# Altium footprint library RoboFly.PcbLib: 28 footprints (part 1 of 2)
Each footprint in its own frame and in the unit in brackets; x right, y up, seen from the top. Pads: shape width x height; smd on the part's side, far side on the other; paste and mask are expansions set on the pad; w line width, h text height; cw(c..) or ccw(c..) is an arc to the next point about the centre after c.
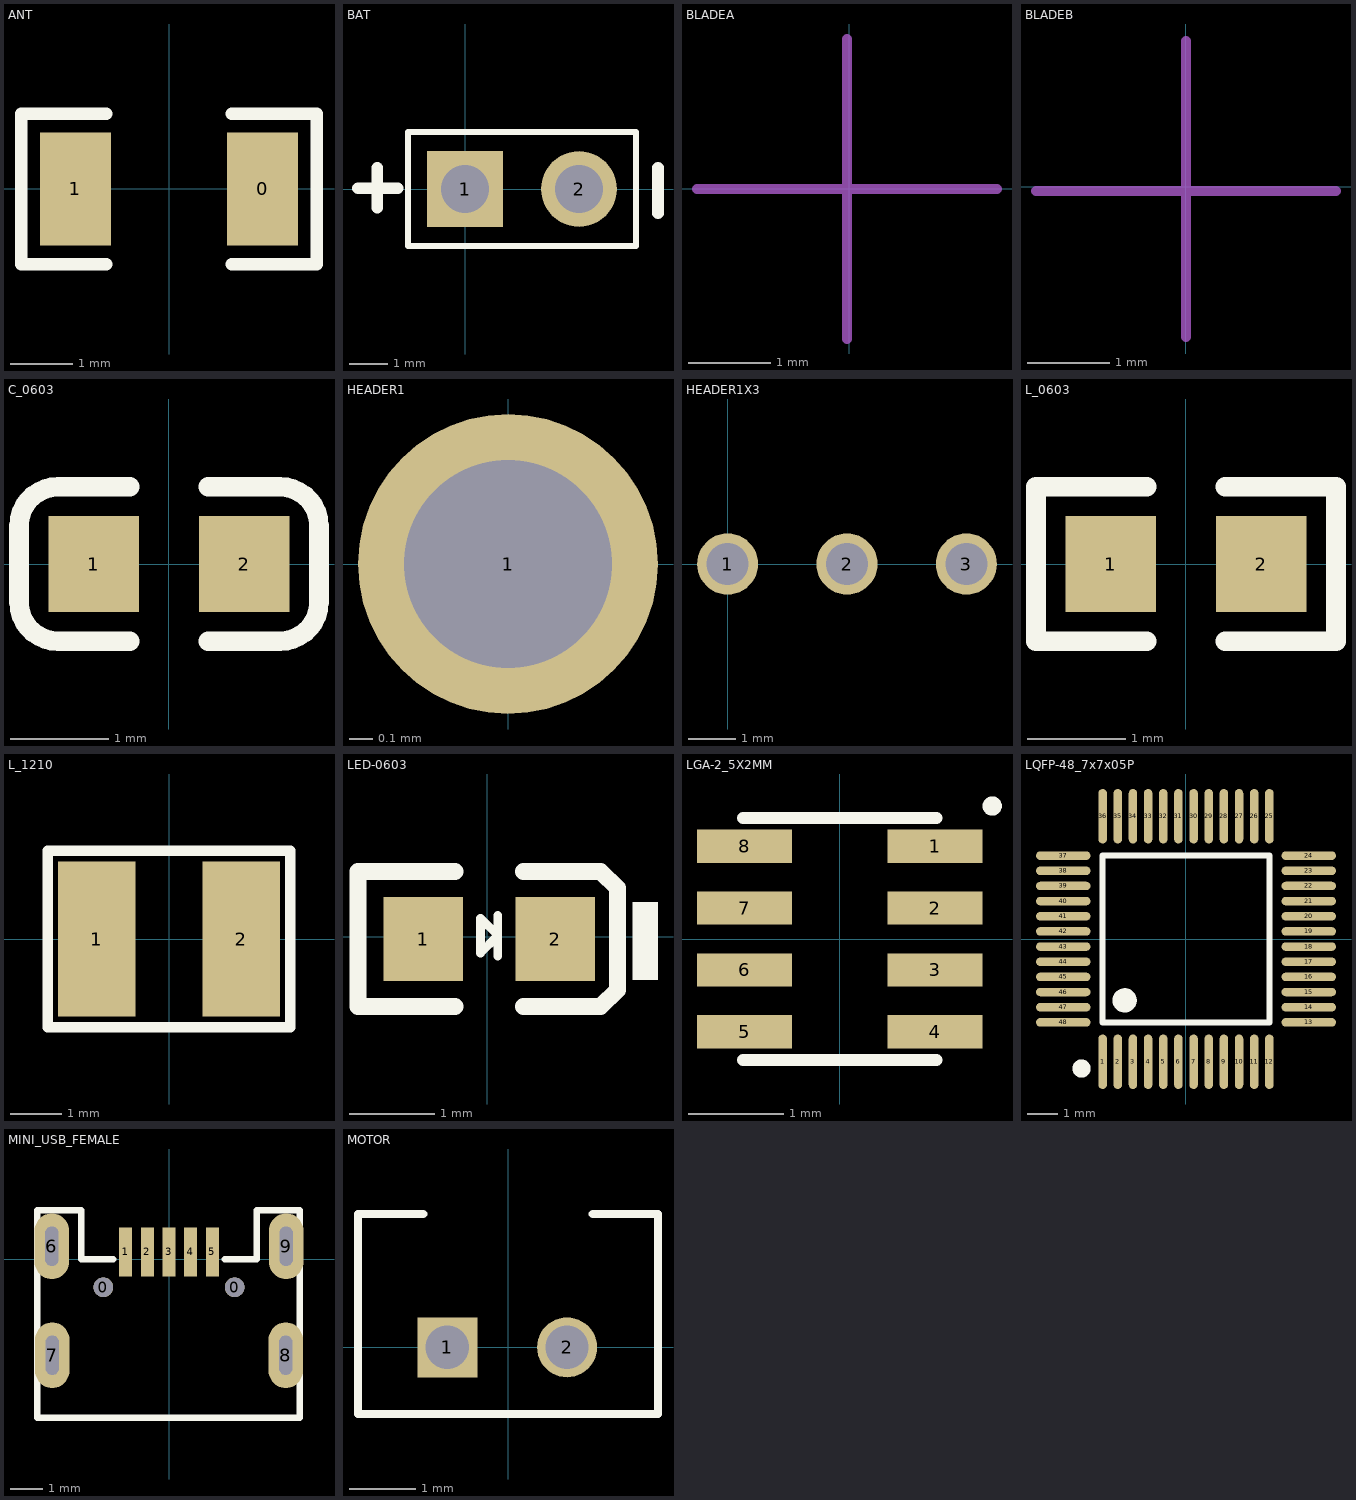
[diagram p0: the footprints below, top view; thin cyan lines are the x and y axes]

## 720Motor [mm]
3D body "720空心杯电机.STEP": height 20.3, standoff -8.9, extent -4.496,-4.496 4.504,4.504

## ANT [mm]
pads (2):
  rect 1.13x1.8 smd: 0(1.49,0) 1(-1.49,0)
Top Overlay:
  lines w0.2: -1,-1.2 -2.355,-1.2 -2.355,1.2 -1,1.2 ; 1,-1.2 2.355,-1.2 2.355,1.2 1,1.2
3D body "C1808.STEP": height 0.88, standoff -0.02, extent -2.25,-1 2.25,1

## BAT [mm]
pads (2):
  rect 2x2 hole 1.27: 1(0,0)
  round 2 hole 1.27: 2(3,0)
Top Overlay:
  lines w0.152: -1.5,-1.5 -1.5,1.5 4.5,1.5 4.5,-1.5 -1.5,-1.5
  lines w0.305: -2.819,0.023 -1.769,0.023 ; -2.314,-0.492 -2.314,0.559 ; 5.08,-0.641 5.08,0.559

## BLADEA [mm]
Mechanical 15:
  lines w0.12: -1.854,0 -0.025,0 ; -0.025,-1.829 -0.025,0 ; -0.025,1.829 -0.025,0 ; 1.803,0 -0.025,0
3D body "A桨叶.STEP": height 20, standoff 15, extent -27.5,-3.912 27.5,3.924

## BLADEB [mm]
Mechanical 15:
  lines w0.12: -1.829,-0.051 0,-0.051 ; 0,-1.829 0,0 ; 0,1.778 0,-0.051 ; 1.829,-0.051 0,-0.051
3D body "B桨叶.STEP": height 20, standoff 15, extent -27.5,-3.997 27.5,3.997

## C_0603 [mm]
pads (2):
  rect 0.93x0.98 smd: 1(-0.77,0) 2(0.77,0)
Top Overlay:
  lines w0.2: -0.4,-0.79 -1.135,-0.79 cw(c-1.135,-0.39) -1.535,-0.39 -1.535,0.39 cw(c-1.135,0.39) -1.135,0.79 -0.4,0.79 ; 0.4,-0.79 1.135,-0.79 ccw(c1.135,-0.39) 1.535,-0.39 1.535,0.39 ccw(c1.135,0.39) 1.135,0.79 0.4,0.79
3D body "User Library-0603 SMD Capacitor.STEP": height 0.3, standoff 0, extent -0.8,-0.4 0.8,0.4

## HEADER1 [mm]
pads (1):
  round 1.3 hole 0.9: 1(0,0)
3D body "HDR2.54-1P.STEP": height 8.5, standoff -3, extent -1.26,-1.26 1.28,1.28

## HEADER1X3 [mm]
pads (3):
  round 1.3 hole 0.9: 1(0,0) 2(2.54,0) 3(5.08,0)
3D body "HDR2.54-1P.STEP": height 8.5, standoff -3, extent 3.81,-1.27 6.35,1.27
3D body "HDR2.54-1P.STEP": height 8.5, standoff -3, extent 1.28,-1.26 3.82,1.28
3D body "HDR2.54-1P.STEP": height 8.5, standoff -3, extent -1.26,-1.26 1.28,1.28

## L_0603 [mm]
pads (2):
  rect 0.93x0.98 smd: 1(-0.77,0) 2(0.77,0)
Top Overlay:
  lines w0.2: -0.4,-0.79 -1.535,-0.79 -1.535,0.79 -0.4,0.79 ; 0.4,-0.79 1.535,-0.79 1.535,0.79 0.4,0.79
3D body "User Library-RES_1609-0603.STEP": height 0.56, standoff 0, extent -0.85,-0.4 0.85,0.4

## L_1210 [mm]
pads (2):
  rect 1.5x3 smd: 1(-1.394,0) 2(1.394,0)
Top Overlay:
  lines w0.2: -2.337,-1.702 -2.337,1.702 2.337,1.702 2.337,-1.702 -2.337,-1.702
3D body "电感.STEP": height 1.9, standoff 0, extent -1.89,-1.506 1.585,1.499
3D body "电感.STEP": height 1.9, standoff 0, extent 0.076,0.152 3.552,3.157
3D body "电感.STEP": height 1.9, standoff 0, extent 0,0.025 3.476,3.03

## LED-0603 [mm]
pads (2):
  rect 0.93x0.98 smd: 1(-0.745,-0.025) 2(0.795,-0.025)
Top Overlay:
  region: 2,0.406 1.7,0.406 1.7,-0.508 2,-0.508
  lines w0.102: 0.127,-0.229 0.127,0.254 ; -0.076,-0.19 0.114,0 0.122,0.022 -0.076,0.217 -0.076,-0.19
  lines w0.2: -0.375,-0.815 -1.51,-0.815 -1.51,0.765 -0.375,0.765 ; 0.425,-0.815 1.325,-0.815 1.525,-0.622 1.525,0.572 1.325,0.765 0.425,0.765
3D body "User Library-LED_0603_R.STEP": height 0.6, standoff 0, extent -0.775,-0.425 0.825,0.374

## LGA-2_5X2MM [mm]
pads (8):
  rect 1x0.35 smd: 1(1.001,0.975) 2(1.001,0.325) 3(1.001,-0.325) 4(1.001,-0.975) 5(-1.001,-0.975) 6(-1.001,-0.325) 7(-1.001,0.325) 8(-1.001,0.975)
Top Overlay:
  circle w0.102: c1.6,1.397 r0.051
  lines w0.127: -1.016,-1.27 1.016,-1.27 ; -1.016,1.27 1.016,1.27
3D body: height 0.9, standoff 0.01, extent -1.086,-1.346 1.092,1.314

## LQFP-48_7x7x05P [mm]
pads (48):
  oval 0.28x1.8 smd mask+0.051: 1(-2.75,-4.05) 2(-2.25,-4.05) 3(-1.75,-4.05) 4(-1.25,-4.05) 5(-0.75,-4.05) 6(-0.25,-4.05) 7(0.25,-4.05) 8(0.75,-4.05) 9(1.25,-4.05) 10(1.75,-4.05) 11(2.25,-4.05) 12(2.75,-4.05) 25(2.75,4.05) 26(2.25,4.05) 27(1.75,4.05) 28(1.25,4.05) 29(0.75,4.05) 30(0.25,4.05) 31(-0.25,4.05) 32(-0.75,4.05) 33(-1.25,4.05) 34(-1.75,4.05) 35(-2.25,4.05) 36(-2.75,4.05)
  oval 1.8x0.28 smd mask+0.051: 13(4.05,-2.75) 14(4.05,-2.25) 15(4.05,-1.75) 16(4.05,-1.25) 17(4.05,-0.75) 18(4.05,-0.25) 19(4.05,0.25) 20(4.05,0.75) 21(4.05,1.25) 22(4.05,1.75) 23(4.05,2.25) 24(4.05,2.75) 37(-4.05,2.75) 38(-4.05,2.25) 39(-4.05,1.75) 40(-4.05,1.25) 41(-4.05,0.75) 42(-4.05,0.25) 43(-4.05,-0.25) 44(-4.05,-0.75) 45(-4.05,-1.25) 46(-4.05,-1.75) 47(-4.05,-2.25) 48(-4.05,-2.75)
Top Overlay:
  circle w0.3: c-3.45,-4.275 r0.15
  circle w0.4: c-2.025,-2.025 r0.2
  lines w0.2: -2.75,-2.75 2.75,-2.75 2.75,2.75 -2.75,2.75 -2.75,-2.75
3D body "LQFP48-7x7.STEP": height 1.45, standoff 0, extent -4.503,-4.503 4.503,4.503

## MINI_USB_FEMALE [mm]
pads (11):
  round 0.6 hole 0.6: 0(-2,-0.85) 0(2,-0.85)
  rect 0.4x1.5 smd: 1(-1.321,0.229) 2(-0.66,0.229) 3(0,0.229) 4(0.66,0.229) 5(1.321,0.229)
  oval 1.05x2 hole 0.4 slot 1.2 at 90 deg: 6(-3.57,0.4) 7(-3.556,-2.921) 8(3.556,-2.921) 9(3.57,0.4)
Top Overlay:
  lines w0.2: -1.7,0 -2.667,0 -2.667,1.499 -4.013,1.499 -4.013,-4.826 3.988,-4.826 3.988,1.499 2.667,1.499 2.667,0 1.7,0
3D body "USB micro_D.STEP": height 2.79, standoff -0.95, extent -3.955,-5.795 4.015,0.905

## MOTOR [mm]
pads (2):
  rect 0.9x0.9 hole 0.65: 1(-0.911,0)
  round 0.9 hole 0.65: 2(0.886,0)
Top Overlay:
  lines w0.127: -1.27,2 -2.25,2 -2.25,-1 2.25,-1 2.25,2 1.27,2
3D body "电机插座.STEP": height 5, standoff -1.5, extent -2.092,-1.194 2.108,2.006

## PROTECT_COVER [mm]
3D body "桨叶保护罩.STEP": height 16, standoff 10, extent -66.35,-66.542 66.65,66.339